# Altium footprint library 0ZCJ0025FF2E.PcbLib: 1 footprints
Each footprint in its own frame and in the unit in brackets; x right, y up, seen from the top. Pads: shape width x height; smd on the part's side, far side on the other; paste and mask are expansions set on the pad; w line width, h text height; cw(c..) or ccw(c..) is an arc to the next point about the centre after c.
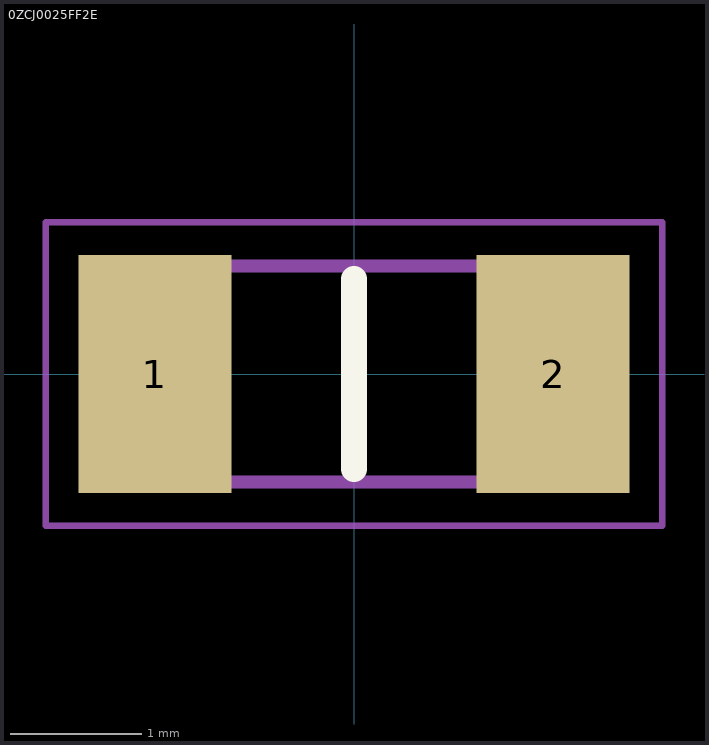
[diagram p0: the footprint, top view; thin cyan lines are the x and y axes]

## 0ZCJ0025FF2E [mm]
pads (2):
  rect 1.17x1.82 smd: 1(-1.52,0) 2(1.52,0)
Top Overlay:
  lines w0.2: 0,-0.725 0,0.725
Mechanical 15:
  lines w0.1: -1.625,-0.825 1.625,-0.825 1.625,0.825 -1.625,0.825 -1.625,-0.825
Mechanical 20:
  lines w0.05: -2.355,-1.16 2.355,-1.16 2.355,1.16 -2.355,1.16 -2.355,-1.16
3D body "0ZCJ0025FF2E.stp": height 0.3, standoff -0.3, extent -1.675,-0.825 1.675,0.825